# EAGLE library part DRV8830 (library pimoroni)
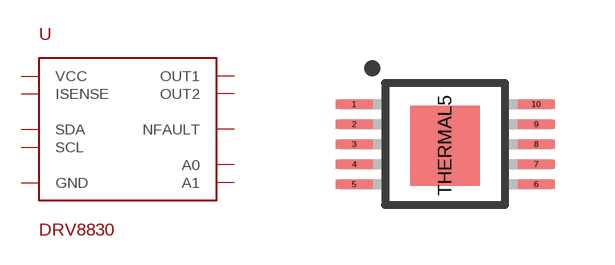
[diagram p33: symbol with the pads of HTSSOP10; footprint HTSSOP10]

Designator prefix -

## DRV8830  [HTSSOP10]
1  OUT2
2  ISENSE
3  OUT1
4  VCC
5  GND
6  NFAULT
7  A0
8  A1
9  SDA
10  SCL
THERMAL5  GND

## Footprint HTSSOP10 (pad centres in mm)
smd 0.95 x 0.22: 1 -2.319,0.956; 2 -2.319,0.456; 3 -2.319,-0.044; 4 -2.319,-0.544; 5 -2.319,-1.044; 6 2.231,-1.044; 7 2.231,-0.544; 8 2.231,-0.044; 9 2.231,0.456; 10 2.231,0.956
smd 1.73 x 2: THERMAL5 -0.044,-0.079